# Altium footprint library LQFP.PcbLib: 1 footprints
Each footprint in its own frame and in the unit in brackets; x right, y up, seen from the top. Pads: shape width x height; smd on the part's side, far side on the other; paste and mask are expansions set on the pad; w line width, h text height; cw(c..) or ccw(c..) is an arc to the next point about the centre after c.
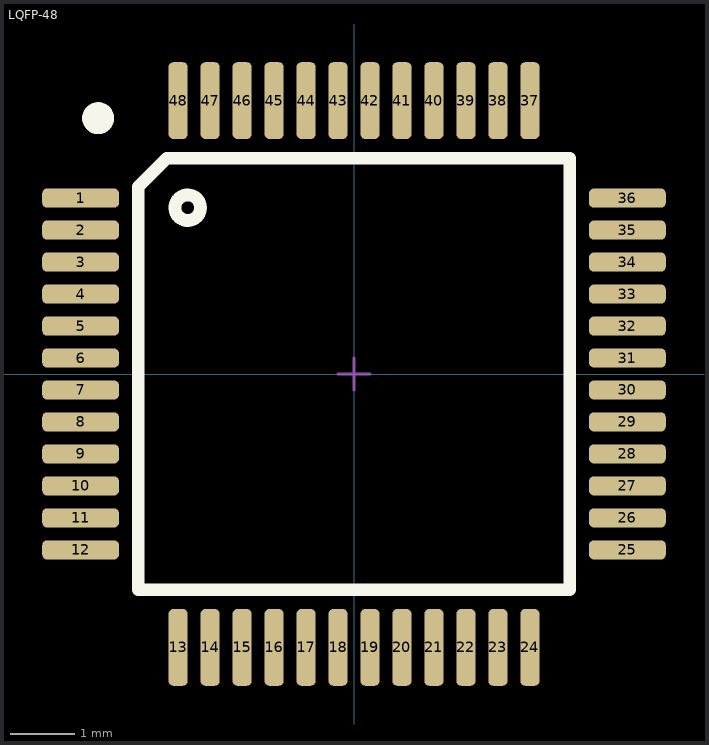
[diagram p0: the footprint, top view; thin cyan lines are the x and y axes]

## LQFP-48 [mm]
height 2
pads (48):
  rrect50% 1.2x0.3 smd: 1(-4.275,2.75) 2(-4.275,2.25) 3(-4.275,1.75) 4(-4.275,1.25) 5(-4.275,0.75) 6(-4.275,0.25) 7(-4.275,-0.25) 8(-4.275,-0.75) 9(-4.275,-1.25) 10(-4.275,-1.75) 11(-4.275,-2.25) 12(-4.275,-2.75) 25(4.275,-2.75) 26(4.275,-2.25) 27(4.275,-1.75) 28(4.275,-1.25) 29(4.275,-0.75) 30(4.275,-0.25) 31(4.275,0.25) 32(4.275,0.75) 33(4.275,1.25) 34(4.275,1.75) 35(4.275,2.25) 36(4.275,2.75)
  rrect50% 0.3x1.2 smd: 13(-2.75,-4.275) 14(-2.25,-4.275) 15(-1.75,-4.275) 16(-1.25,-4.275) 17(-0.75,-4.275) 18(-0.25,-4.275) 19(0.25,-4.275) 20(0.75,-4.275) 21(1.25,-4.275) 22(1.75,-4.275) 23(2.25,-4.275) 24(2.75,-4.275) 37(2.75,4.275) 38(2.25,4.275) 39(1.75,4.275) 40(1.25,4.275) 41(0.75,4.275) 42(0.25,4.275) 43(-0.25,4.275) 44(-0.75,4.275) 45(-1.25,4.275) 46(-1.75,4.275) 47(-2.25,4.275) 48(-2.75,4.275)
Top Overlay:
  circle w0.25: c-4,4 r0.125
  circle w0.2: c-2.6,2.6 r0.2
  lines w0.2: -3.375,-3.375 -3.375,2.925 -2.925,3.375 3.375,3.375 3.375,-3.375 -3.375,-3.375
Top Solder:
  rectangle: -3,-4.975 3,-3.575
  rectangle: 3.575,-3 4.975,3
  rectangle: -3,3.575 3,4.975
  rectangle: -4.975,-3 -3.575,3
Mechanical 15:
  lines w0.05: -0.25,0 0.25,0 ; 0,-0.25 0,0.25
3D body "LQFP-48.step": height 1.6, standoff 0, extent -4.5,-4.5 4.5,4.5